# Altium footprint library CAPPRD750W80D1250H3150B.PcbLib: 1 footprints
Each footprint in its own frame and in the unit in brackets; x right, y up, seen from the top. Pads: shape width x height; smd on the part's side, far side on the other; paste and mask are expansions set on the pad; w line width, h text height; cw(c..) or ccw(c..) is an arc to the next point about the centre after c.
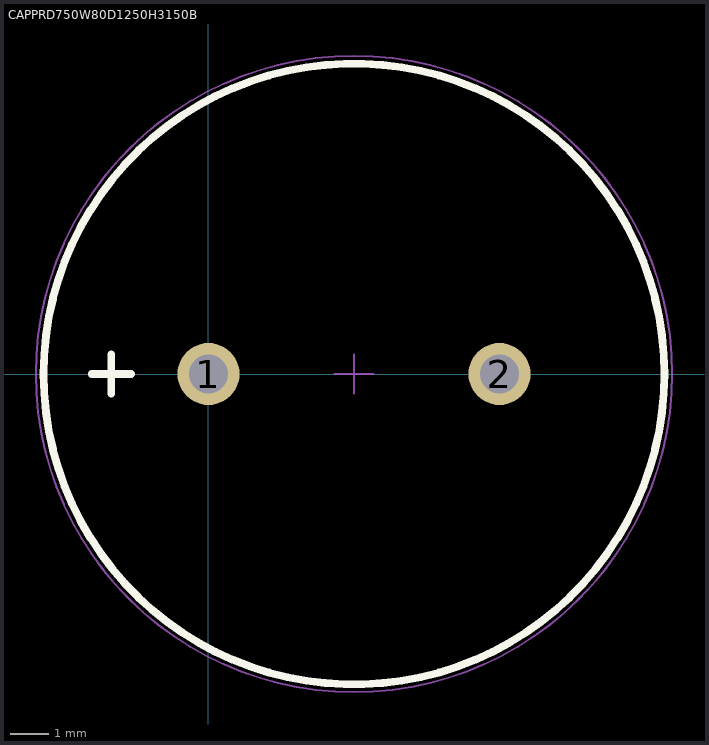
[diagram p0: the footprint, top view; thin cyan lines are the x and y axes]

## CAPPRD750W80D1250H3150B [mm]
pads (2):
  round 1.6 hole 1: 1(0,0) 2(7.5,0)
Top Overlay:
  circle w0.2: c3.75,0 r8
  lines w0.2: -3.011,0 -1.995,0 ; -2.503,-0.508 -2.503,0.508
Mechanical 13:
  circle w0.1: c3.75,0 r8
  lines w0.1: -3.011,0 -1.995,0 ; -2.503,-0.508 -2.503,0.508
Mechanical 15:
  circle w0.05: c3.75,0 r8.2
  lines w0.05: 3.25,0 4.25,0 ; 3.75,-0.5 3.75,0.5
3D body "16x31.5_Lead.stp": height 31.5, standoff -19, extent -4.19,-7.997 11.81,7.998